# Altium schematic symbol library CON-3X2.SchLib: 1 symbol
Pins are listed as number, name and electrical type; pins without a type are passive.

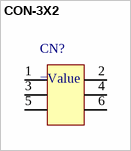
[diagram p0: symbol CON-3X2]

## CON-3X2
designator CN?
=Description
pins: 1, 2, 3, 4, 5, 6